# Altium footprint library EEE314 PIC32540 Programmer.PcbLib: 21 footprints (part 2 of 2)
Each footprint in its own frame and in the unit in brackets; x right, y up, seen from the top. Pads: shape width x height; smd on the part's side, far side on the other; paste and mask are expansions set on the pad; w line width, h text height; cw(c..) or ccw(c..) is an arc to the next point about the centre after c.
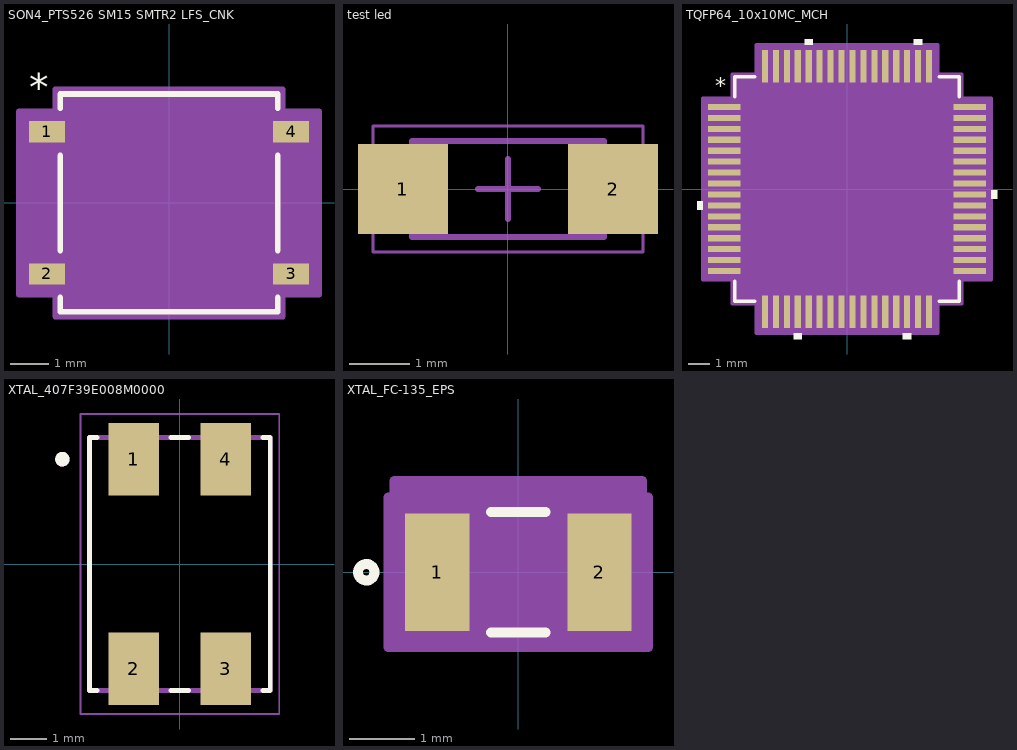
[diagram p1: the footprints below, top view; thin cyan lines are the x and y axes]

## SON4_PTS526 SM15 SMTR2 LFS_CNK [mm]
pads (4):
  rect 0.945x0.558 smd paste+0 mask+0: 1(-3.178,1.85) 2(-3.178,-1.85) 3(3.178,-1.85) 4(3.178,1.85)
Top Overlay:
  lines w0.152: -2.832,-2.462 -2.832,-2.832 2.832,-2.832 2.832,-2.462 ; -2.832,-1.238 -2.832,1.238 ; -2.832,2.462 -2.832,2.832 2.832,2.832 2.832,2.462 ; 2.832,-1.238 2.832,1.238
  text "*" at -3.632,2.413 h1.27
Top 3D Body:
  lines w0.025: -0.305,2.705 ccw(c0,2.705) 0.305,2.705 ; -3.3,-2.104 -2.705,-2.104 -2.705,-1.596 -3.3,-1.596 -3.3,-2.104 ; -3.3,1.596 -2.705,1.596 -2.705,2.104 -3.3,2.104 -3.3,1.596 ; -2.705,-2.705 -2.705,2.705 2.705,2.705 2.705,-2.705 -2.705,-2.705 ; 2.705,-2.104 3.3,-2.104 3.3,-1.596 2.705,-1.596 2.705,-2.104 ; 2.705,1.596 3.3,1.596 3.3,2.104 2.705,2.104 2.705,1.596
  text "*" at -2.642,1.359 h1.27
Top Courtyard:
  region: -2.959,-2.383 -3.904,-2.383 -3.904,2.383 -2.959,2.383 -2.959,2.959 2.959,2.959 2.959,2.383 3.904,2.383 3.904,-2.383 2.959,-2.383 2.959,-2.959 -2.959,-2.959
  lines w0.152: -3.904,-2.383 -2.959,-2.383 -2.959,-2.959 2.959,-2.959 2.959,-2.383 3.904,-2.383 3.904,2.383 2.959,2.383 2.959,2.959 -2.959,2.959 -2.959,2.383 -3.904,2.383 -3.904,-2.383
3D body "SON4_PTS526SM15SMTR2LFS_CNK.step": height 1.6, standoff 0, extent -3.3,-2.705 3.3,2.705

## test led [mm]
height 1.1
pads (2):
  rect 1.5x1.5 smd: 1(-1.75,0) 2(1.75,0)
Top 3D Body:
  lines w0.1: -1.6,-0.8 -1.6,0.8 1.6,0.8 1.6,-0.8 -1.6,-0.8
Top Courtyard:
  lines w0.05: -2.25,-1.05 -2.25,1.05 2.25,1.05 2.25,-1.05 -2.25,-1.05
  lines w0.1: -0.5,0 0.5,0 ; 0,-0.5 0,0.5
3D body: height 1.1, standoff 0, extent -1.6,-0.8 1.6,0.8
3D body: height 0, standoff 0, extent -1.6,-0.8 -1.6,0.8
3D body: height 0, standoff 0, extent 1.6,-0.8 1.6,0.8

## TQFP64_10x10MC_MCH [mil]
pads (64):
  rect 58x11 smd paste+0 mask+0: 1(-221,147.64) 2(-221,127.95) 3(-221,108.27) 4(-221,88.58) 5(-221,68.9) 6(-221,49.21) 7(-221,29.53) 8(-221,9.84) 9(-221,-9.84) 10(-221,-29.53) 11(-221,-49.21) 12(-221,-68.9) 13(-221,-88.58) 14(-221,-108.27) 15(-221,-127.95) 16(-221,-147.64) 33(221,-147.64) 34(221,-127.95) 35(221,-108.27) 36(221,-88.58) 37(221,-68.9) 38(221,-49.21) 39(221,-29.53) 40(221,-9.84) 41(221,9.84) 42(221,29.53) 43(221,49.21) 44(221,68.9) 45(221,88.58) 46(221,108.27) 47(221,127.95) 48(221,147.64)
  rect 11x58 smd paste+0 mask+0: 17(-147.64,-221) 18(-127.95,-221) 19(-108.27,-221) 20(-88.58,-221) 21(-68.9,-221) 22(-49.21,-221) 23(-29.53,-221) 24(-9.84,-221) 25(9.84,-221) 26(29.53,-221) 27(49.21,-221) 28(68.9,-221) 29(88.58,-221) 30(108.27,-221) 31(127.95,-221) 32(147.64,-221) 49(147.64,221) 50(127.95,221) 51(108.27,221) 52(88.58,221) 53(68.9,221) 54(49.21,221) 55(29.53,221) 56(9.84,221) 57(-9.84,221) 58(-29.53,221) 59(-49.21,221) 60(-68.9,221) 61(-88.58,221) 62(-108.27,221) 63(-127.95,221) 64(-147.64,221)
Top Overlay:
  region: -260,-22.03 -270,-22.03 -270,-37.03 -260,-37.03
  region: -81.08,-260 -96.08,-260 -96.08,-270 -81.08,-270
  region: 115.77,-260 100.77,-260 100.77,-270 115.77,-270
  region: 260,-2.34 270,-2.34 270,-17.34 260,-17.34
  region: 135.45,260 120.45,260 120.45,270 135.45,270
  region: -61.4,260 -76.4,260 -76.4,270 -61.4,270
  lines w6: -202,-166.24 -202,-202 -166.24,-202 ; -202,166.24 -202,202 -166.24,202 ; 166.24,-202 202,-202 202,-166.24 ; 166.24,202 202,202 202,166.24
  text "*" at -237,162 h50
Top 3D Body:
  drawing of 261 lines, arcs and shapes, not listed
  text "*" at -194.5,132.48 h50
Top Courtyard:
  region: -163.14,-207 -207,-207 -207,-163.14 -260,-163.14 -260,163.14 -207,163.14 -207,207 -163.14,207 -163.14,260 163.14,260 163.14,207 207,207 207,163.14 260,163.14 260,-163.14 207,-163.14 207,-207 163.14,-207 163.14,-260 -163.14,-260
  lines w6: -260,-163.14 -207,-163.14 -207,-207 -163.14,-207 -163.14,-260 163.14,-260 163.14,-207 207,-207 207,-163.14 260,-163.14 260,163.14 207,163.14 207,207 163.14,207 163.14,260 -163.14,260 -163.14,207 -207,207 -207,163.14 -260,163.14 -260,-163.14
3D body "TQFP64_10x10MC_MCH.step": height 47.09, standoff 0, extent -235.98,-235.98 235.98,235.98

## XTAL_407F39E008M0000 [mm]
height 1.3
pads (4):
  rect 1.4x2 smd paste+0 mask+0.102: 1(-1.27,2.9) 2(-1.27,-2.9) 3(1.27,-2.9) 4(1.27,2.9)
Top Overlay:
  circle w0.2: c-3.25,2.9 r0.1
  lines w0.127: -2.29,-3.5 -2.5,-3.5 -2.5,3.5 -2.29,3.5 ; -0.25,-3.5 0.25,-3.5 ; -0.25,3.5 0.25,3.5 ; 2.29,-3.5 2.5,-3.5 2.5,3.5 2.29,3.5
Top 3D Body:
  circle w0.2: c-3.25,2.9 r0.1
  lines w0.127: -2.5,-3.5 2.5,-3.5 2.5,3.5 -2.5,3.5 -2.5,-3.5
Top Courtyard:
  lines w0.05: -2.75,-4.15 2.75,-4.15 2.75,4.15 -2.75,4.15 -2.75,-4.15
3D body "step_temp.STEP": height 1.3, standoff 0, extent -2.5,-3.5 2.5,3.5

## XTAL_FC-135_EPS [mil]
pads (2):
  rect 39x71 smd paste+0 mask+0: 1(-49.21,0) 2(49.21,0)
Top Overlay:
  circle w6: c-92.21,0 r5
  lines w6: -16.65,-36.5 16.65,-36.5 ; -16.65,36.5 16.65,36.5
Top 3D Body:
  circle w0: c-29.71,0 r3
  lines w0: -12,31.5 ccw(c0,31.5) 12,31.5
  lines w1: -65,-31.5 65,-31.5 65,31.5 -65,31.5 -65,-31.5
Top Courtyard:
  region: -75,-45.5 -78.71,-45.5 -78.71,45.5 -75,45.5 -75,55.5 75,55.5 75,45.5 78.71,45.5 78.71,-45.5 75,-45.5
  lines w6: -78.71,-45.5 -78.71,45.5 -75,45.5 -75,55.5 75,55.5 75,45.5 78.71,45.5 78.71,-45.5 75,-45.5 -75,-45.5 -78.71,-45.5
3D body "XTAL_FC-135_EPS.step": height 35.12, standoff 0, extent -65,-35.51 65,35.51